# EAGLE library part J-WURTH-686110183422 (library J-Wurth-686110183422-10pos-FFC)
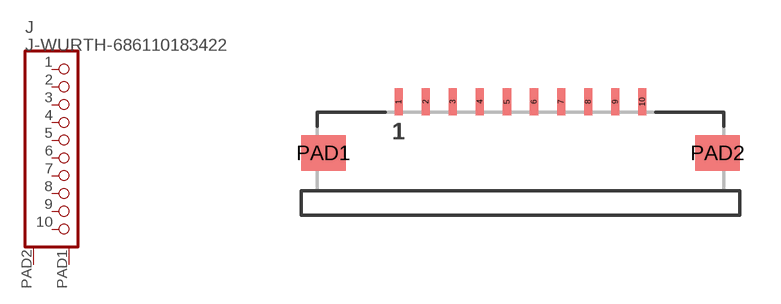
[diagram p0: symbol with the pads of J-WURTH-686110183422; footprint J-WURTH-686110183422]

Designator prefix J

## J-WURTH-686110183422  [J-WURTH-686110183422]
1  1  pas
2  2  pas
3  3  pas
4  4  pas
5  5  pas
6  6  pas
7  7  pas
8  8  pas
9  9  pas
10  10  pas
PAD1  PAD1  pas
PAD2  PAD2  pas

## Footprint J-WURTH-686110183422 (pad centres in mm)
smd 0.3 x 1: 1 -4.5,1.9; 2 -3.5,1.9; 3 -2.5,1.9; 4 -1.5,1.9; 5 -0.5,1.9; 6 0.5,1.9; 7 1.5,1.9; 8 2.5,1.9; 9 3.5,1.9; 10 4.5,1.9
smd 1.65 x 1.3: PAD1 -7.28,0; PAD2 7.28,0